# EAGLE library part ZOUL (library Zoul)
The Zoul is a core module developed by Zolertia to target most IoT applications, providing a flexible and affordable module solution to integrate to most existing products and solutions, or ease the prototyping and production of new products in a short time.
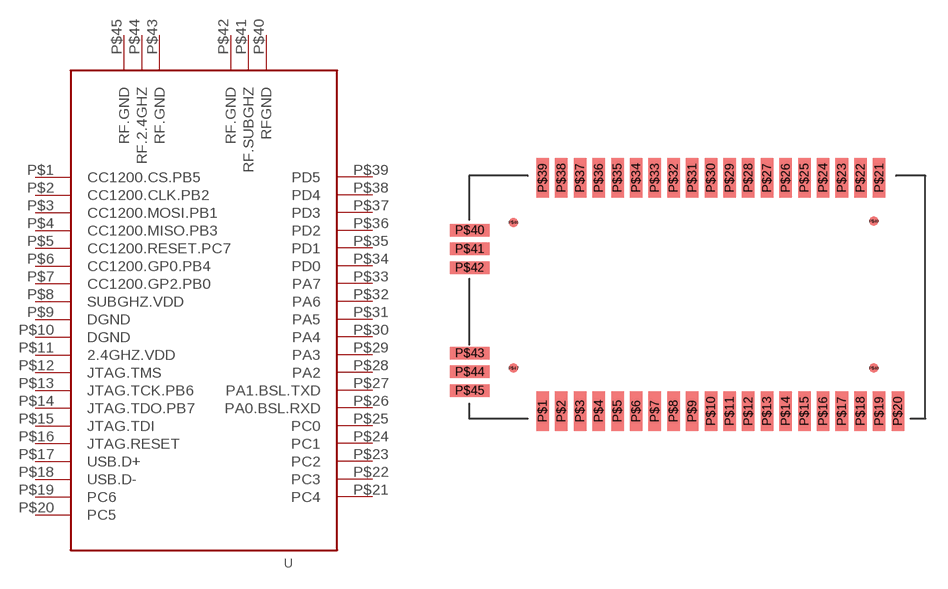
[diagram p0: symbol with the pads of ZOULMOUSEBITE; footprint ZOULMOUSEBITE]

Designator prefix -

## ZOUL  [ZOULMOUSEBITE]
P$1  CC1200.CS.PB5
P$2  CC1200.CLK.PB2
P$3  CC1200.MOSI.PB1
P$4  CC1200.MISO.PB3
P$5  CC1200.RESET.PC7
P$6  CC1200.GP0.PB4
P$7  CC1200.GP2.PB0
P$8  SUBGHZ.VDD
P$9  DGND
P$10  DGND
P$11  2.4GHZ.VDD
P$12  JTAG.TMS
P$13  JTAG.TCK.PB6
P$14  JTAG.TDO.PB7
P$15  JTAG.TDI
P$16  JTAG.RESET
P$17  USB.D+
P$18  USB.D-
P$19  PC6
P$20  PC5
P$21  PC4
P$22  PC3
P$23  PC2
P$24  PC1
P$25  PC0
P$26  PA0.BSL.RXD
P$27  PA1.BSL.TXD
P$28  PA2
P$29  PA3
P$30  PA4
P$31  PA5
P$32  PA6
P$33  PA7
P$34  PD0
P$35  PD1
P$36  PD2
P$37  PD3
P$38  PD4
P$39  PD5
P$40  RFGND
P$41  RF.SUBGHZ
P$42  RF.GND
P$43  RF.GND
P$44  RF.2.4GHZ
P$45  RF.GND

## Footprint ZOULMOUSEBITE (pad centres in mm)
smd 0.85 x 2.7: P$1 0,0; P$2 1.27,0; P$3 2.54,0; P$4 3.81,0; P$5 5.08,0; P$6 6.35,0; P$7 7.62,0; P$8 8.89,0; P$9 10.16,0; P$10 11.43,0; P$11 12.7,0; P$12 13.97,0; P$13 15.24,0; P$14 16.51,0; P$15 17.78,0; P$16 19.05,0; P$17 20.32,0; P$18 21.59,0; P$19 22.86,0; P$20 24.13,0; P$21 22.86,15.85; P$22 21.59,15.85; P$23 20.32,15.85; P$24 19.05,15.85; P$25 17.78,15.85; P$26 16.51,15.85; P$27 15.24,15.85; P$28 13.97,15.85; P$29 12.7,15.85; P$30 11.43,15.85; P$31 10.16,15.85; P$32 8.89,15.85; P$33 7.62,15.85; P$34 6.35,15.85; P$35 5.08,15.85; P$36 3.81,15.85; P$37 2.54,15.85; P$38 1.27,15.85; P$39 0,15.85
smd 2.7 x 0.85: P$40 -4.953,12.292; P$41 -4.953,11.022; P$42 -4.953,9.752; P$43 -4.953,3.935; P$44 -4.953,2.665; P$45 -4.953,1.395
smd 0.635 x 0.635: P$46 -1.981,12.827; P$47 -1.981,2.921; P$48 22.504,2.921; P$49 22.504,12.903